# Altium footprint library CAN_10_30.PcbLib: 1 footprints
Each footprint in its own frame and in the unit in brackets; x right, y up, seen from the top. Pads: shape width x height; smd on the part's side, far side on the other; paste and mask are expansions set on the pad; w line width, h text height; cw(c..) or ccw(c..) is an arc to the next point about the centre after c.
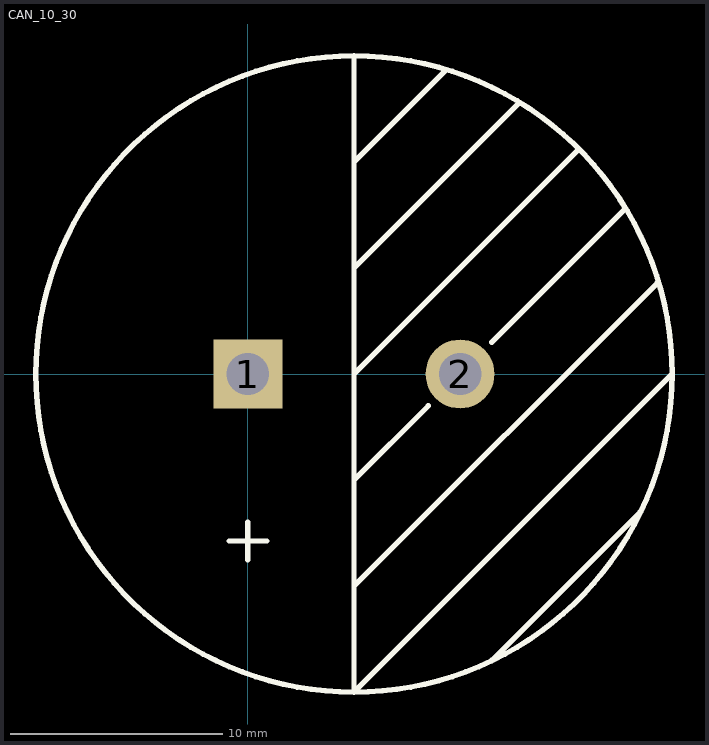
[diagram p0: the footprint, top view; thin cyan lines are the x and y axes]

## CAN_10_30 [mm] "Cap, 10mm lead spacing, 30mm diameter"
pads (2):
  rect 3.25x3.25 hole 2: 1(0,0)
  round 3.25 hole 2: 2(10,0)
Top Overlay:
  lines w0.254: -0.889,-7.874 0.889,-7.874 ; 0,-8.763 0,-6.985 ; 5,-10 19.3,4.3 ; 5,-5 8.5,-1.5 ; 5,0 15.55,10.55 ; 5,5 12.75,12.75 ; 5,10 9.35,14.35 ; 11.5,-13.5 18.5,-6.5 ; 11.5,1.5 17.75,7.75 ; 19.95,-0.05 5,-15 ; 5,-15 cw(c5,0) 5,15 ; 5,-15 ccw(c5,0) 5,15 ; 5,-15 5,15
3D body: height 40, standoff 0, extent -10,-15 20,15